# Altium schematic symbol library 53100C.SchLib: 1 symbol
Pins are listed as number, name and electrical type; pins without a type are passive.

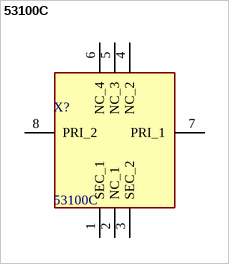
[diagram p0: symbol 53100C]

## 53100C
designator X?
Murata Power Solutions Current Transformer, , 10A Input,; Manufacturer_Name: Murata Electronics; Geometry.Height: 5.65mm; Manufacturer_Part_Number: 53100C; Mouser Part Number: 580-53100C; Mouser Price/Stock: https://www.mouser.co.uk/ProductDetail/Murata-Power-Solutions/53100C?qs=RJ0JL0kt8YyWMnwQulxMKA%3D%3D; Arrow Part Number: 53100C; Arrow Price/Stock: https://www.arrow.com/en/products/53100c/murata-power-solutions; Datasheet Link: https://www.mouser.com/datasheet/2/281/kmp_5300c-51810.pdf
footprint 53100C
pins: 1 SEC_1, 2 NC_1, 3 SEC_2, 4 NC_2, 5 NC_3, 6 NC_4, 7 PRI_1, 8 PRI_2